# EAGLE library part CD40109BE (library CD40109BE)
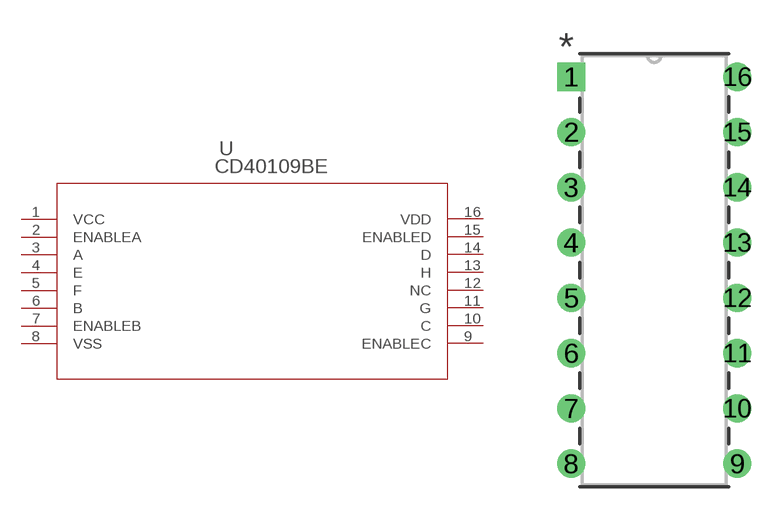
[diagram p0: symbol with the pads of N16; footprint N16]

Designator prefix U

## CD40109BE (BUILT_BY: EMA_UL_Team; MANUFACTURER_PART_NUMBER: CD40109BE; VENDOR: Texas Instruments)  [N16]
1  VCC  pwr
2  ENABLEA  pas
3  A  pas
4  E  pas
5  F  pas
6  B  pas
7  ENABLEB  pas
8  VSS  pwr
9  ENABLEC  pas
10  C  pas
11  G  pas
12  NC  nc
13  H  pas
14  D  pas
15  ENABLED  pas
16  VDD  pwr

## Footprint N16 (pad centres in mm)
drill 0.787 pad 1.295 square: 1 -7.62,17.78
drill 0.787 pad 1.295: 2 -7.62,15.24; 3 -7.62,12.7; 4 -7.62,10.16; 5 -7.62,7.62; 6 -7.62,5.08; 7 -7.62,2.54; 8 -7.62,0; 9 0,0; 10 0,2.54; 11 0,5.08; 12 0,7.62; 13 0,10.16; 14 0,12.7; 15 0,15.24; 16 0,17.78